# Altium schematic symbol library Crystals.SchLib: 2 symbols
Pins are listed as number, name and electrical type; pins without a type are passive.

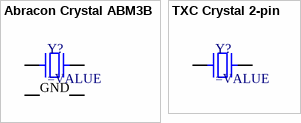
[diagram p0: symbols Abracon Crystal ABM3B to TXC Crystal 2-pin]

## Abracon Crystal ABM3B
designator Y?
SMT Crystal
pins: 1, 2 GND, 3, 4 GND

## TXC Crystal 2-pin
designator Y?
SMT Crystal
pins: 1, 2